# Altium schematic symbol library PCA9557PW,118.SchLib: 1 symbol
Pins are listed as number, name and electrical type; pins without a type are passive.

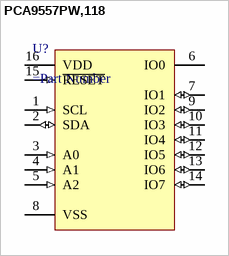
[diagram p0: symbol PCA9557PW,118]

## PCA9557PW,118
designator U?
=Description
pins: 1 SCL (in), 2 SDA (io), 3 A0 (in), 4 A1 (in), 5 A2 (in), 6 IO0 (oc), 7 IO1 (io), 8 VSS (power), 9 IO2 (io), 10 IO3 (io), 11 IO4 (io), 12 IO5 (io), 13 IO6 (io), 14 IO7 (io), 15 ~{RESET} (in), 16 VDD (power)